# Altium footprint library cube8.PcbLib: 12 footprints
Each footprint in its own frame and in the unit in brackets; x right, y up, seen from the top. Pads: shape width x height; smd on the part's side, far side on the other; paste and mask are expansions set on the pad; w line width, h text height; cw(c..) or ccw(c..) is an arc to the next point about the centre after c.
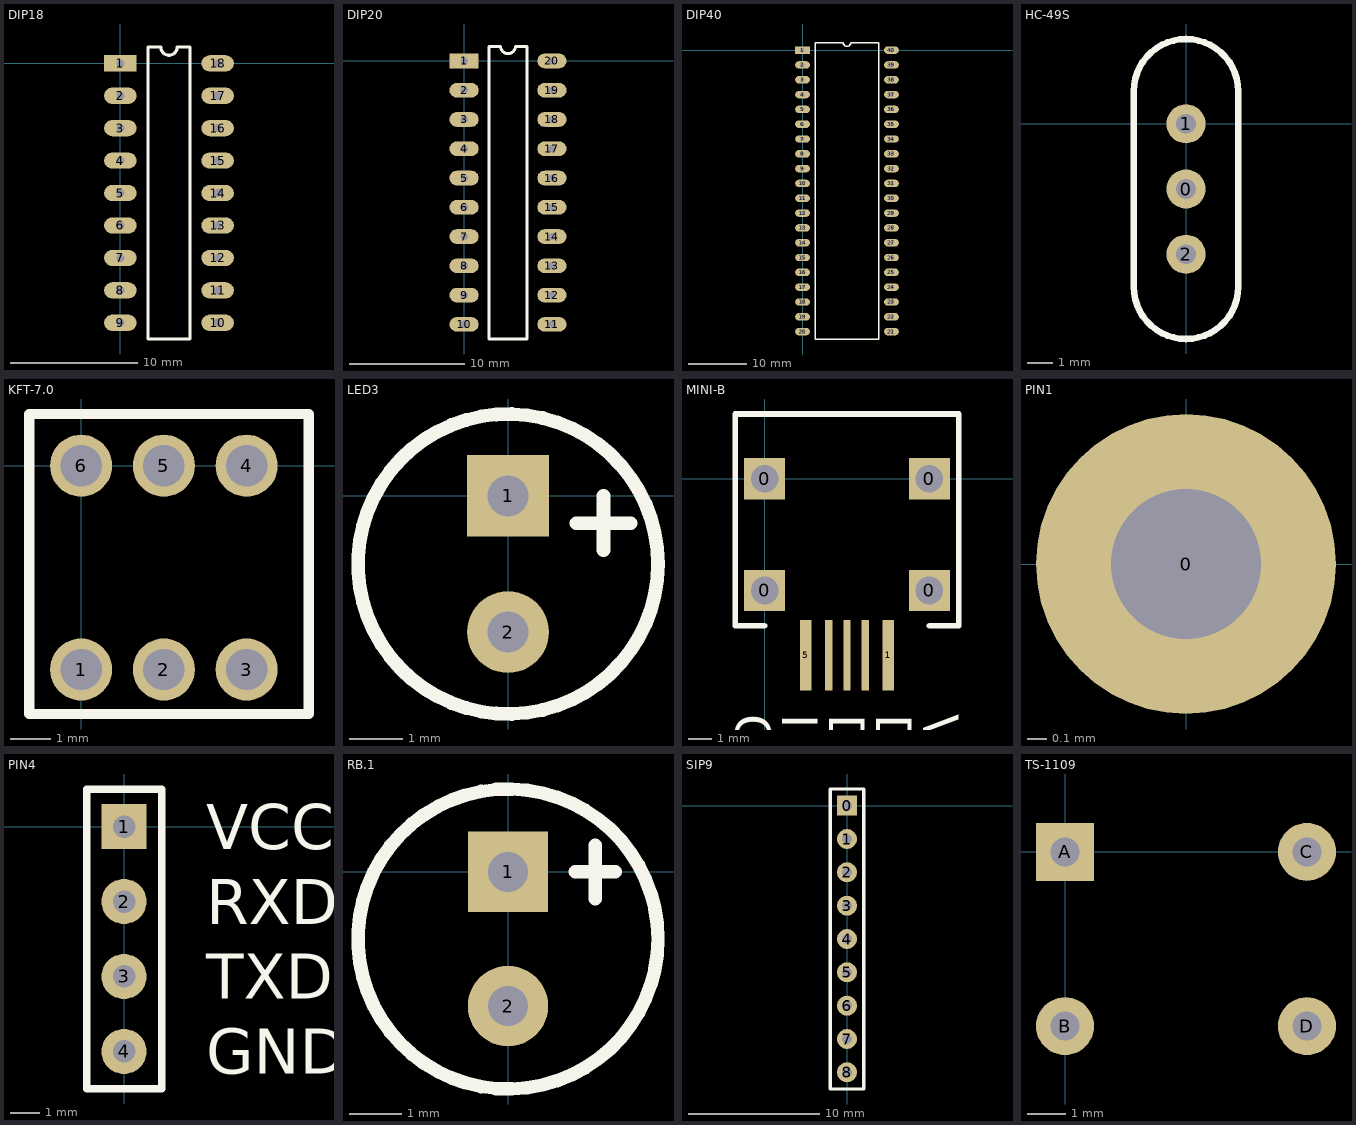
[diagram p0: the footprints below, top view; thin cyan lines are the x and y axes]

## DIP18 [mil]
pads (18):
  rect 100x50 hole 25: 1(0,0)
  oval 100x50 hole 25: 2(0,-100) 3(0,-200) 4(0,-300) 5(0,-400) 6(0,-500) 7(0,-600) 8(0,-700) 9(0,-800) 10(300,-800) 11(300,-700) 12(300,-600) 13(300,-500) 14(300,-400) 15(300,-300) 16(300,-200) 17(300,-100) 18(300,0)
Top Overlay:
  lines w10: 85,-850 215,-850 215,50 175,50 cw(c150,50) 125,50 85,50 85,-850

## DIP20 [mil]
pads (20):
  rect 100x50 hole 25: 1(0,0)
  oval 100x50 hole 25: 2(0,-100) 3(0,-200) 4(0,-300) 5(0,-400) 6(0,-500) 7(0,-600) 8(0,-700) 9(0,-800) 10(0,-900) 11(300,-900) 12(300,-800) 13(300,-700) 14(300,-600) 15(300,-500) 16(300,-400) 17(300,-300) 18(300,-200) 19(300,-100) 20(300,0)
Top Overlay:
  lines w10: 85,-950 215,-950 215,50 175,50 cw(c150,50) 125,50 85,50 85,-950

## DIP40 [mil]
pads (40):
  rect 100x50 hole 25: 1(0,0)
  oval 100x50 hole 25: 2(0,-100) 3(0,-200) 4(0,-300) 5(0,-400) 6(0,-500) 7(0,-600) 8(0,-700) 9(0,-800) 10(0,-900) 11(0,-1000) 12(0,-1100) 13(0,-1200) 14(0,-1300) 15(0,-1400) 16(0,-1500) 17(0,-1600) 18(0,-1700) 19(0,-1800) 20(0,-1900) 21(600,-1900) 22(600,-1800) 23(600,-1700) 24(600,-1600) 25(600,-1500) 26(600,-1400) 27(600,-1300) 28(600,-1200) 29(600,-1100) 30(600,-1000) 31(600,-900) 32(600,-800) 33(600,-700) 34(600,-600) 35(600,-500) 36(600,-400) 37(600,-300) 38(600,-200) 39(600,-100) 40(600,0)
Top Overlay:
  lines w10: 85,-1950 85,50 275,50 ccw(c300,50) 325,50 515,50 515,-1950 85,-1950

## HC-49S [mil]
pads (3):
  round 60 hole 30: 0(0,-100) 1(0,0) 2(0,-200)
Top Overlay:
  lines w10: -80,-250 ccw(c0,-250) 80,-250 80,50 ccw(c0,50) -80,50 -80,-250

## KFT-7.0 [mil]
pads (6):
  round 60 hole 40: 1(0,-197) 2(80,-197) 3(160,-197) 4(160,0) 5(80,0) 6(0,0)
Top Overlay:
  lines w10: -50,-240 220,-240 220,50 -50,50 -50,-240

## LED3 [mil]
pads (2):
  rect 60x60 hole 30: 1(0,0)
  round 60 hole 30: 2(0,-100)
Top Overlay:
  circle w10: c0,-50 r110
  lines w10: 50,-20 90,-20 ; 70,-40 70,0

## MINI-B [mil]
pads (9):
  rect 70x70 hole 47: 0(0,-190) 0(0,0) 0(280,-190) 0(280,0)
  rect 20x120 smd: 1(210,-300) 5(70,-300)
  rect 12x120 smd: 2(171,-300) 3(140,-300) 4(109,-300)
Top Overlay:
  lines w10: 0,-250 -50,-250 -50,110 330,110 330,-250 280,-250
  text "GND" at -50,-400 h60
  text "ID" at 30,-400 h60
  text "D+" at 110,-400 h60
  text "D-" at 190,-400 h60
  text "V++" at 270,-400 h60

## PIN1 [mil]
pads (1):
  round 60 hole 30: 0(0,0)

## PIN4 [mil]
pads (4):
  rect 60x60 hole 30: 1(0,0)
  round 60 hole 30: 2(0,-100) 3(0,-200) 4(0,-300)
Top Overlay:
  lines w10: -50,-350 50,-350 50,50 -50,50 -50,-350
  text "VCC" at 110,-30 h60
  text "RXD" at 110,-130 h60
  text "TXD" at 110,-230 h60
  text "GND" at 110,-330 h60

## RB.1 [mil]
pads (2):
  rect 60x60 hole 30: 1(0,0)
  round 60 hole 30: 2(0,-100)
Top Overlay:
  circle w10: c0,-50 r111.8
  lines w10: 50,0 80,0 ; 65,-20 65,20

## SIP9 [mil]
pads (9):
  rect 60x60 hole 30: 0(0,0)
  round 60 hole 30: 1(0,-100) 2(0,-200) 3(0,-300) 4(0,-400) 5(0,-500) 6(0,-600) 7(0,-700) 8(0,-800)
Top Overlay:
  lines w10: -50,-850 -50,50 50,50 50,-850 -50,-850

## TS-1109 [mil]
pads (4):
  rect 60x60 hole 30: A(0,0)
  round 60 hole 30: B(0,-180) C(250,0) D(250,-180)